# Altium schematic symbol library TDA7266D.SchLib: 1 symbol
Pins are listed as number, name and electrical type; pins without a type are passive.

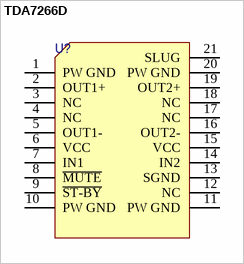
[diagram p0: symbol TDA7266D]

## TDA7266D
designator U?  (value not drawn)
pins: 1 PW GND, 2 OUT1+, 3 NC, 4 NC, 5 OUT1-, 6 VCC, 7 IN1, 8 ~{MUTE}, 9 ~{ST-BY}, 10 PW GND, 11 PW GND, 12 NC, 13 SGND, 14 IN2, 15 VCC, 16 OUT2-, 17 NC, 18 NC, 19 OUT2+, 20 PW GND, 21 SLUG